# EAGLE library part LED_7-SEG_CC_HDSP-5503 (library SMD-Components_E950)
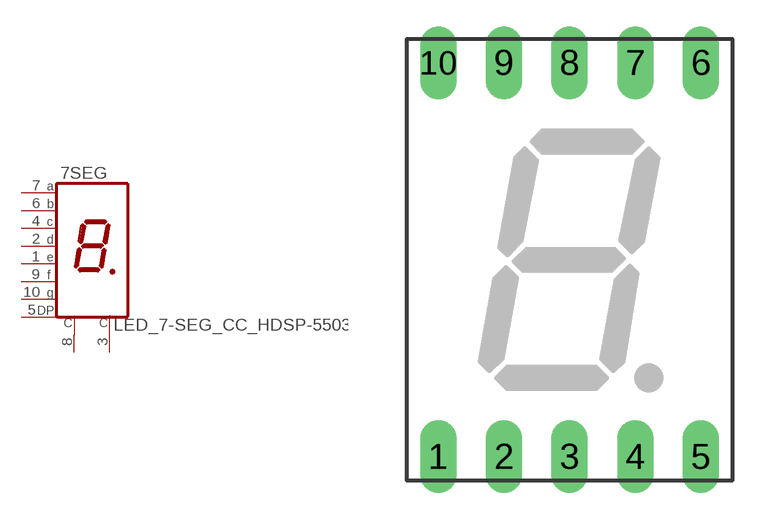
[diagram p7: symbol with the pads of LED_7-SEG_CC_HDSP-5503; footprint LED_7-SEG_CC_HDSP-5503]

Designator prefix 7SEG

## LED_7-SEG_CC_HDSP-5503  [LED_7-SEG_CC_HDSP-5503]
1  E  pas
2  D  pas
3  C  pas
4  C  pas
5  DP  pas
6  B  pas
7  A  pas
8  C  pas
9  F  pas
10  G  pas

## Footprint LED_7-SEG_CC_HDSP-5503 (pad centres in mm)
Single Digit LED Numeric Display 10.16 mm Source: ROHM .. la-401dn.pdf
drill 0.9 pad 1.27 long: 1 -5.08,-7.62; 2 -2.54,-7.62; 3 0,-7.62; 4 2.54,-7.62; 5 5.08,-7.62; 6 5.08,7.62; 7 2.54,7.62; 8 0,7.62; 9 -2.54,7.62; 10 -5.08,7.62